# Altium footprint library CAPC1005X60N.PcbLib: 1 footprints
Each footprint in its own frame and in the unit in brackets; x right, y up, seen from the top. Pads: shape width x height; smd on the part's side, far side on the other; paste and mask are expansions set on the pad; w line width, h text height; cw(c..) or ccw(c..) is an arc to the next point about the centre after c.
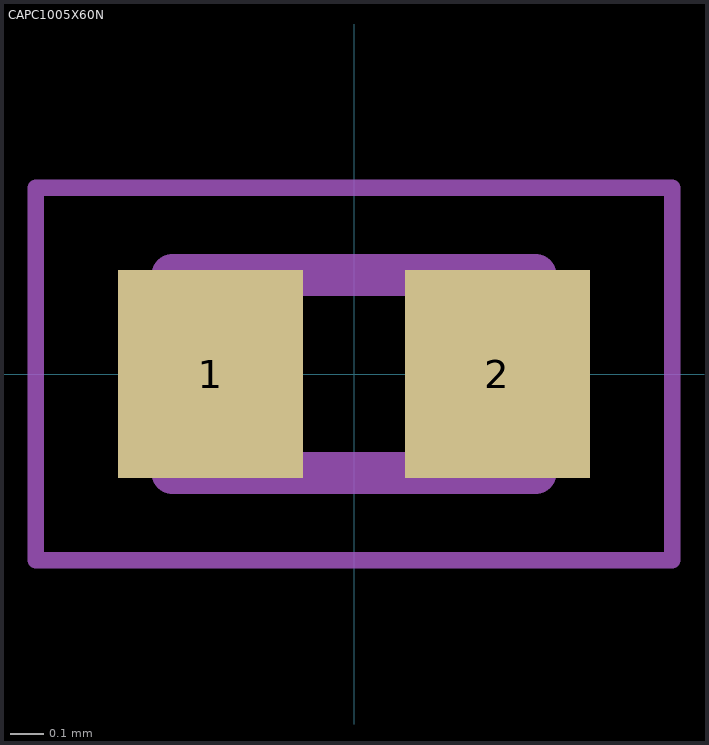
[diagram p0: the footprint, top view; thin cyan lines are the x and y axes]

## CAPC1005X60N [mm]
pads (2):
  rect 0.56x0.63 smd: 1(-0.435,0) 2(0.435,0)
Mechanical 13:
  lines w0.127: -0.55,-0.3 0.55,-0.3 0.55,0.3 -0.55,0.3 -0.55,-0.3
Mechanical 15:
  lines w0.05: -0.965,-0.565 0.965,-0.565 0.965,0.565 -0.965,0.565 -0.965,-0.565
3D body "step_temp.STEP": height 0.6, standoff 0, extent -0.5,-0.25 0.5,0.25